# EAGLE library part AT25F041 (library XP9300)
4Mb SPI FLASH
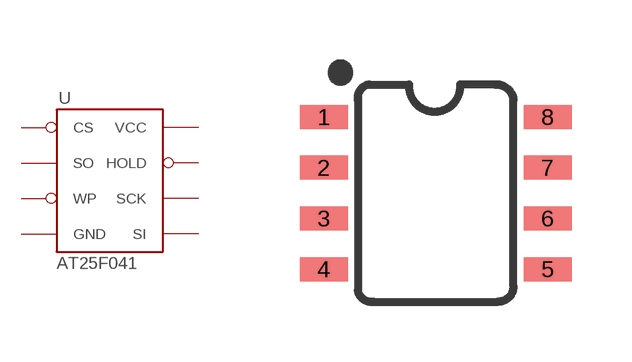
[diagram p0: symbol with the pads of SO08; footprint SO08]

Designator prefix U

## AT25F041SOIC-NARROW (DIGIKEY: AT25SF041B-SSHB-T)  [SO08]
1  CS
2  SO
3  WP
4  GND
5  SI
6  SCK
7  HOLD
8  VCC

## Footprint SO08 (pad centres in mm)
SOIC, 0.15 inch width
smd 1.2 x 0.6: 1 -2.8,1.905; 2 -2.8,0.635; 3 -2.8,-0.635; 4 -2.8,-1.905; 5 2.8,-1.905; 6 2.8,-0.635; 7 2.8,0.635; 8 2.8,1.905